# EAGLE library part TC58CVG2S0HRAIJ (library Arduino-MITCH_Breakouts)
NAND Flash 4G-bit 128M X 8bit Serial 8-Pin WSON Source: Datasheet <https://business.kioxia.com/en-us/memory/detail.TC58CVG2S0HRAIJ.html>
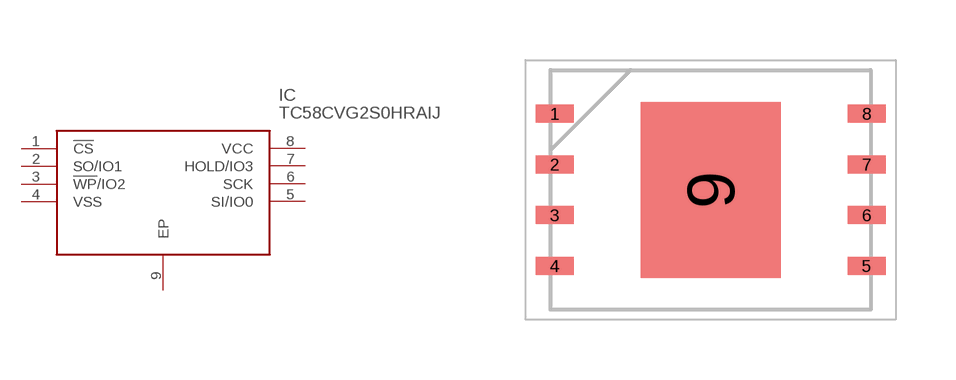
[diagram p6: symbol with the pads of SON127P800X600X80-9N; footprint SON127P800X600X80-9N]

Designator prefix IC

## TC58CVG2S0HRAIJ (DESCRIPTION: NAND Flash 4G-bit 128M X 8bit Serial 8-Pin WSON; HEIGHT: 0.8mm; MANUFACTURER_NAME: Kioxia America; MANUFACTURER_PART_NUMBER: TC58CVG2S0HRAIJ; MOUSER_PART_NUMBER: 757-TC58CVG2S0HRAIJ; MOUSER_PRICE-STOCK: https://www.mouser.co.uk/ProductDetail/Kioxia-America/TC58CVG2S0HRAIJ?qs=OlC7AqGiEDkQEWU%2FaAG3Ug%3D%3D)  [SON127P800X600X80-9N]
1  !CS
2  SO/IO1
3  !WP!/IO2
4  VSS
5  SI/IO0
6  SCK
7  HOLD/IO3
8  VCC
9  EP

## Footprint SON127P800X600X80-9N (pad centres in mm)
WSON
smd 0.95 x 0.45: 1 -3.9,1.905; 2 -3.9,0.635; 3 -3.9,-0.635; 4 -3.9,-1.905; 5 3.9,-1.905; 6 3.9,-0.635; 7 3.9,0.635; 8 3.9,1.905
smd 3.5 x 4.4: 9 0,0